# Altium schematic symbol library SCH - MCU - TI - TI MSPM0L122X LQFP-48 PT.SchLib: 1 symbol
Pins are listed as number, name and electrical type; pins without a type are passive.

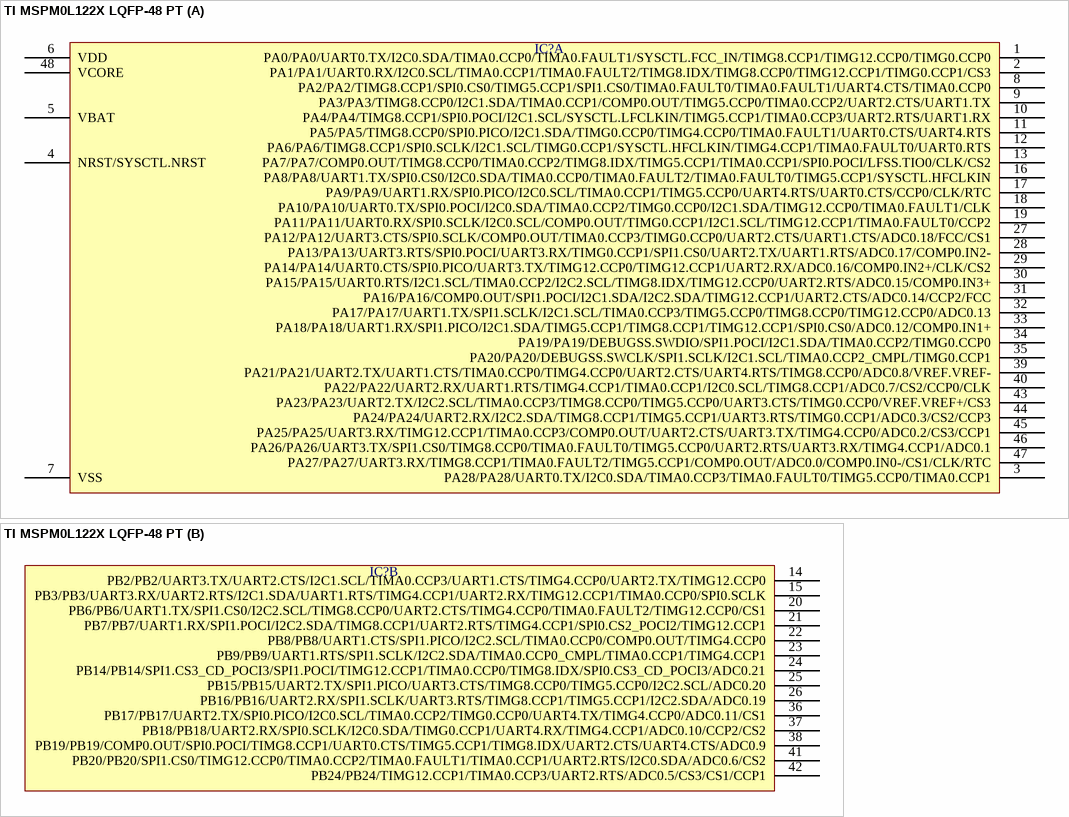
[diagram p0: symbol TI MSPM0L122X LQFP-48 PT]

## TI MSPM0L122X LQFP-48 PT
designator IC?  (value not drawn)
part A pins: 1 PA0/PA0/UART0.TX/I2C0.SDA/TIMA0.CCP0/TIMA0.FAULT1/SYSCTL.FCC_IN/TIMG8.CCP1/TIMG12.CCP0/TIMG0.CCP0, 2 PA1/PA1/UART0.RX/I2C0.SCL/TIMA0.CCP1/TIMA0.FAULT2/TIMG8.IDX/TIMG8.CCP0/TIMG12.CCP1/TIMG0.CCP1/CS3, 3 PA28/PA28/UART0.TX/I2C0.SDA/TIMA0.CCP3/TIMA0.FAULT0/TIMG5.CCP0/TIMA0.CCP1, 4 NRST/SYSCTL.NRST, 5 VBAT, 6 VDD, 7 VSS, 8 PA2/PA2/TIMG8.CCP1/SPI0.CS0/TIMG5.CCP1/SPI1.CS0/TIMA0.FAULT0/TIMA0.FAULT1/UART4.CTS/TIMA0.CCP0, 9 PA3/PA3/TIMG8.CCP0/I2C1.SDA/TIMA0.CCP1/COMP0.OUT/TIMG5.CCP0/TIMA0.CCP2/UART2.CTS/UART1.TX, 10 PA4/PA4/TIMG8.CCP1/SPI0.POCI/I2C1.SCL/SYSCTL.LFCLKIN/TIMG5.CCP1/TIMA0.CCP3/UART2.RTS/UART1.RX, 11 PA5/PA5/TIMG8.CCP0/SPI0.PICO/I2C1.SDA/TIMG0.CCP0/TIMG4.CCP0/TIMA0.FAULT1/UART0.CTS/UART4.RTS, 12 PA6/PA6/TIMG8.CCP1/SPI0.SCLK/I2C1.SCL/TIMG0.CCP1/SYSCTL.HFCLKIN/TIMG4.CCP1/TIMA0.FAULT0/UART0.RTS, 13 PA7/PA7/COMP0.OUT/TIMG8.CCP0/TIMA0.CCP2/TIMG8.IDX/TIMG5.CCP1/TIMA0.CCP1/SPI0.POCI/LFSS.TIO0/CLK/CS2, 16 PA8/PA8/UART1.TX/SPI0.CS0/I2C0.SDA/TIMA0.CCP0/TIMA0.FAULT2/TIMA0.FAULT0/TIMG5.CCP1/SYSCTL.HFCLKIN, 17 PA9/PA9/UART1.RX/SPI0.PICO/I2C0.SCL/TIMA0.CCP1/TIMG5.CCP0/UART4.RTS/UART0.CTS/CCP0/CLK/RTC, 18 PA10/PA10/UART0.TX/SPI0.POCI/I2C0.SDA/TIMA0.CCP2/TIMG0.CCP0/I2C1.SDA/TIMG12.CCP0/TIMA0.FAULT1/CLK, 19 PA11/PA11/UART0.RX/SPI0.SCLK/I2C0.SCL/COMP0.OUT/TIMG0.CCP1/I2C1.SCL/TIMG12.CCP1/TIMA0.FAULT0/CCP2, 27 PA12/PA12/UART3.CTS/SPI0.SCLK/COMP0.OUT/TIMA0.CCP3/TIMG0.CCP0/UART2.CTS/UART1.CTS/ADC0.18/FCC/CS1, 28 PA13/PA13/UART3.RTS/SPI0.POCI/UART3.RX/TIMG0.CCP1/SPI1.CS0/UART2.TX/UART1.RTS/ADC0.17/COMP0.IN2-, 29 PA14/PA14/UART0.CTS/SPI0.PICO/UART3.TX/TIMG12.CCP0/TIMG12.CCP1/UART2.RX/ADC0.16/COMP0.IN2+/CLK/CS2, 30 PA15/PA15/UART0.RTS/I2C1.SCL/TIMA0.CCP2/I2C2.SCL/TIMG8.IDX/TIMG12.CCP0/UART2.RTS/ADC0.15/COMP0.IN3+, 31 PA16/PA16/COMP0.OUT/SPI1.POCI/I2C1.SDA/I2C2.SDA/TIMG12.CCP1/UART2.CTS/ADC0.14/CCP2/FCC, 32 PA17/PA17/UART1.TX/SPI1.SCLK/I2C1.SCL/TIMA0.CCP3/TIMG5.CCP0/TIMG8.CCP0/TIMG12.CCP0/ADC0.13, 33 PA18/PA18/UART1.RX/SPI1.PICO/I2C1.SDA/TIMG5.CCP1/TIMG8.CCP1/TIMG12.CCP1/SPI0.CS0/ADC0.12/COMP0.IN1+, 34 PA19/PA19/DEBUGSS.SWDIO/SPI1.POCI/I2C1.SDA/TIMA0.CCP2/TIMG0.CCP0, 35 PA20/PA20/DEBUGSS.SWCLK/SPI1.SCLK/I2C1.SCL/TIMA0.CCP2_CMPL/TIMG0.CCP1, 39 PA21/PA21/UART2.TX/UART1.CTS/TIMA0.CCP0/TIMG4.CCP0/UART2.CTS/UART4.RTS/TIMG8.CCP0/ADC0.8/VREF.VREF-, 40 PA22/PA22/UART2.RX/UART1.RTS/TIMG4.CCP1/TIMA0.CCP1/I2C0.SCL/TIMG8.CCP1/ADC0.7/CS2/CCP0/CLK, 43 PA23/PA23/UART2.TX/I2C2.SCL/TIMA0.CCP3/TIMG8.CCP0/TIMG5.CCP0/UART3.CTS/TIMG0.CCP0/VREF.VREF+/CS3, 44 PA24/PA24/UART2.RX/I2C2.SDA/TIMG8.CCP1/TIMG5.CCP1/UART3.RTS/TIMG0.CCP1/ADC0.3/CS2/CCP3, 45 PA25/PA25/UART3.RX/TIMG12.CCP1/TIMA0.CCP3/COMP0.OUT/UART2.CTS/UART3.TX/TIMG4.CCP0/ADC0.2/CS3/CCP1, 46 PA26/PA26/UART3.TX/SPI1.CS0/TIMG8.CCP0/TIMA0.FAULT0/TIMG5.CCP0/UART2.RTS/UART3.RX/TIMG4.CCP1/ADC0.1, 47 PA27/PA27/UART3.RX/TIMG8.CCP1/TIMA0.FAULT2/TIMG5.CCP1/COMP0.OUT/ADC0.0/COMP0.IN0-/CS1/CLK/RTC, 48 VCORE
part B pins: 14 PB2/PB2/UART3.TX/UART2.CTS/I2C1.SCL/TIMA0.CCP3/UART1.CTS/TIMG4.CCP0/UART2.TX/TIMG12.CCP0, 15 PB3/PB3/UART3.RX/UART2.RTS/I2C1.SDA/UART1.RTS/TIMG4.CCP1/UART2.RX/TIMG12.CCP1/TIMA0.CCP0/SPI0.SCLK, 20 PB6/PB6/UART1.TX/SPI1.CS0/I2C2.SCL/TIMG8.CCP0/UART2.CTS/TIMG4.CCP0/TIMA0.FAULT2/TIMG12.CCP0/CS1, 21 PB7/PB7/UART1.RX/SPI1.POCI/I2C2.SDA/TIMG8.CCP1/UART2.RTS/TIMG4.CCP1/SPI0.CS2_POCI2/TIMG12.CCP1, 22 PB8/PB8/UART1.CTS/SPI1.PICO/I2C2.SCL/TIMA0.CCP0/COMP0.OUT/TIMG4.CCP0, 23 PB9/PB9/UART1.RTS/SPI1.SCLK/I2C2.SDA/TIMA0.CCP0_CMPL/TIMA0.CCP1/TIMG4.CCP1, 24 PB14/PB14/SPI1.CS3_CD_POCI3/SPI1.POCI/TIMG12.CCP1/TIMA0.CCP0/TIMG8.IDX/SPI0.CS3_CD_POCI3/ADC0.21, 25 PB15/PB15/UART2.TX/SPI1.PICO/UART3.CTS/TIMG8.CCP0/TIMG5.CCP0/I2C2.SCL/ADC0.20, 26 PB16/PB16/UART2.RX/SPI1.SCLK/UART3.RTS/TIMG8.CCP1/TIMG5.CCP1/I2C2.SDA/ADC0.19, 36 PB17/PB17/UART2.TX/SPI0.PICO/I2C0.SCL/TIMA0.CCP2/TIMG0.CCP0/UART4.TX/TIMG4.CCP0/ADC0.11/CS1, 37 PB18/PB18/UART2.RX/SPI0.SCLK/I2C0.SDA/TIMG0.CCP1/UART4.RX/TIMG4.CCP1/ADC0.10/CCP2/CS2, 38 PB19/PB19/COMP0.OUT/SPI0.POCI/TIMG8.CCP1/UART0.CTS/TIMG5.CCP1/TIMG8.IDX/UART2.CTS/UART4.CTS/ADC0.9, 41 PB20/PB20/SPI1.CS0/TIMG12.CCP0/TIMA0.CCP2/TIMA0.FAULT1/TIMA0.CCP1/UART2.RTS/I2C0.SDA/ADC0.6/CS2, 42 PB24/PB24/TIMG12.CCP1/TIMA0.CCP3/UART2.RTS/ADC0.5/CS3/CS1/CCP1